# EAGLE library part KSZ8081RNA (library Microchip)
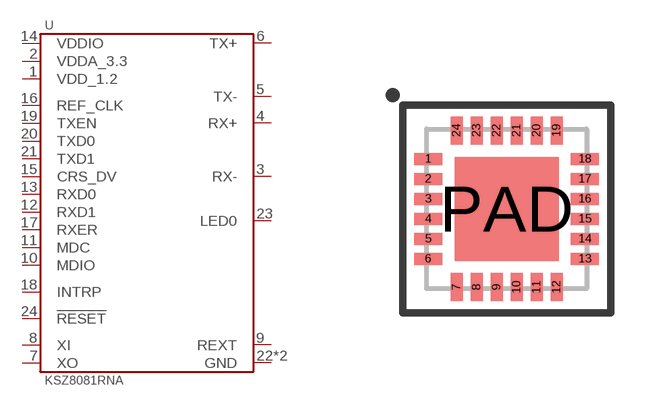
[diagram p24: symbol with the pads of VQFN-24-4MM; footprint VQFN-24-4MM]

Designator prefix U

## KSZ8081RNACA-TR  [VQFN-24-4MM]
1  VDD_1.2
2  VDDA_3.3
3  RX-
4  RX+
5  TX-
6  TX+
7  XO
8  XI
9  REXT
10  MDIO
11  MDC
12  RXD1
13  RXD0
14  VDDIO
15  CRS_DV
16  REF_CLK
17  RXER
18  INTRP
19  TXEN
20  TXD0
21  TXD1
22  GND
23  LED0
24  !RESET
PAD  GND

## Footprint VQFN-24-4MM (pad centres in mm)
smd 0.7 x 0.3: 1 -1.96,1.25; 2 -1.96,0.75; 3 -1.96,0.25; 4 -1.96,-0.25; 5 -1.96,-0.75; 6 -1.96,-1.25; 13 1.96,-1.25; 14 1.96,-0.75; 15 1.96,-0.25; 16 1.96,0.25; 17 1.96,0.75; 18 1.96,1.25
smd 0.3 x 0.7: 7 -1.25,-1.96; 8 -0.75,-1.96; 9 -0.25,-1.96; 10 0.25,-1.96; 11 0.75,-1.96; 12 1.25,-1.96; 19 1.25,1.96; 20 0.75,1.96; 21 0.25,1.96; 22 -0.25,1.96; 23 -0.75,1.96; 24 -1.25,1.96
smd 2.6 x 2.6: PAD 0,0